# Altium footprint library B3F-5050.PcbLib: 1 footprints
Each footprint in its own frame and in the unit in brackets; x right, y up, seen from the top. Pads: shape width x height; smd on the part's side, far side on the other; paste and mask are expansions set on the pad; w line width, h text height; cw(c..) or ccw(c..) is an arc to the next point about the centre after c.
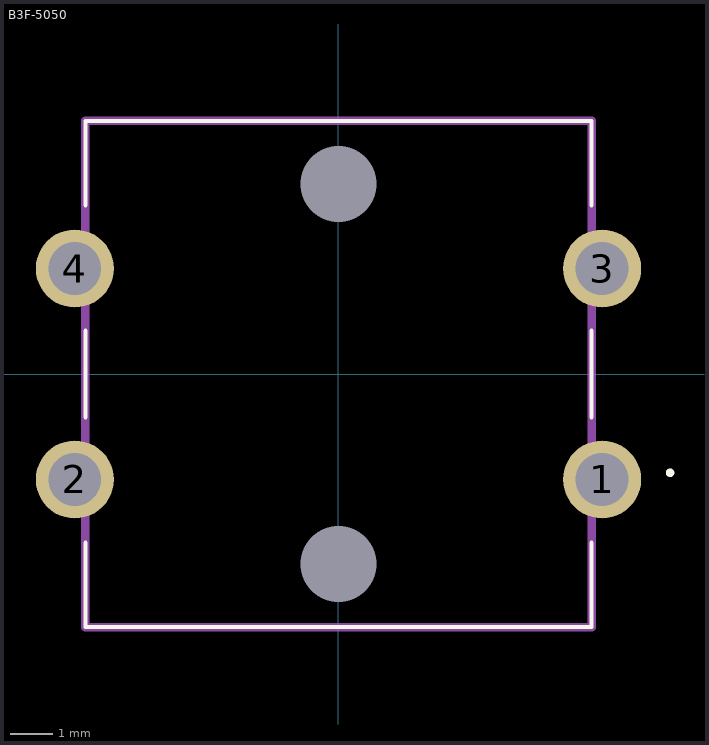
[diagram p0: the footprint, top view; thin cyan lines are the x and y axes]

## B3F-5050 [mm]
pads (6):
  round 1.85 hole 1.25: 1(6.25,-2.5) 2(-6.25,-2.5) 3(6.25,2.5) 4(-6.25,2.5)
  round 0.9 hole 1.8 unplated: ""(0,-4.5) ""(0,4.5)
Top Overlay:
  lines w0.1: -6,-4 -6,-6 6,-6 6,-4 ; -6,-1.025 -6,1.025 ; -6,4 -6,6 6,6 6,4 ; 6,-1.025 6,1.025 ; 7.81,-2.34 ccw(c7.861,-2.34) 7.912,-2.34 ccw(c7.861,-2.34) 7.81,-2.34
Mechanical 13:
  lines w0.2: -6,-6 6,-6 6,6 -6,6 -6,-6
3D body "pulsador B3F_5050 con cubierta.STEP": height 10, standoff -3.5, extent -6.9,-6 6.9,6